# EAGLE library part M_DOT_2(NGFF)SSD_CONNECTOR (library logic-supply)
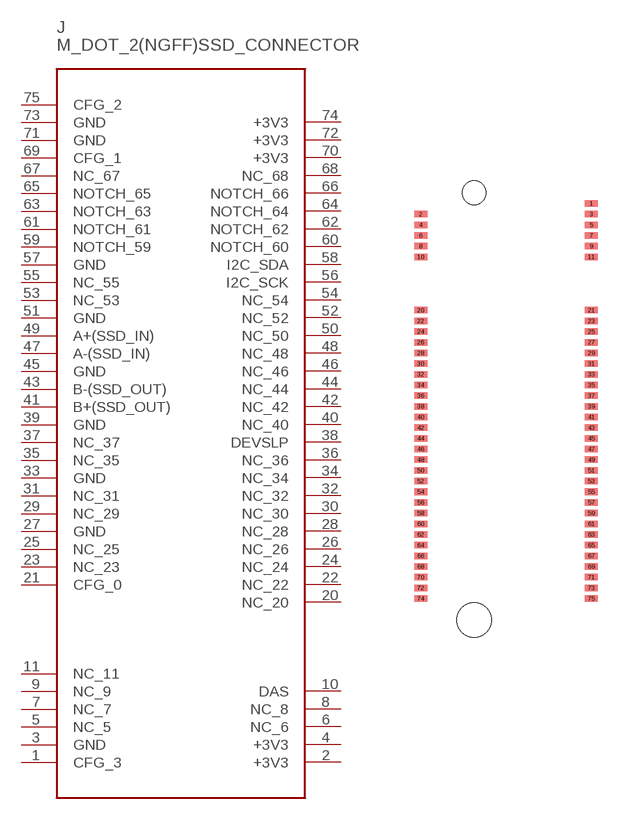
[diagram p53: symbol with the pads of M_DOT_2(NGFF)_SSD_CONNECTOR; footprint M_DOT_2(NGFF)_SSD_CONNECTOR]

Designator prefix J

## M_DOT_2(NGFF)SSD_CONNECTOR  [M_DOT_2(NGFF)_SSD_CONNECTOR]
1  CFG_3
2  +3V3
3  GND
4  +3V3
5  NC_5
6  NC_6
7  NC_7
8  NC_8
9  NC_9
10  DAS
11  NC_11
20  NC_20
21  CFG_0
22  NC_22
23  NC_23
24  NC_24
25  NC_25
26  NC_26
27  GND
28  NC_28
29  NC_29
30  NC_30
31  NC_31
32  NC_32
33  GND
34  NC_34
35  NC_35
36  NC_36
37  NC_37
38  DEVSLP
39  GND
40  NC_40
41  B+(SSD_OUT)
42  NC_42
43  B-(SSD_OUT)
44  NC_44
45  GND
46  NC_46
47  A-(SSD_IN)
48  NC_48
49  A+(SSD_IN)
50  NC_50
51  GND
52  NC_52
53  NC_53
54  NC_54
55  NC_55
56  I2C_SCK
57  GND
58  I2C_SDA
59  NOTCH_59
60  NOTCH_60
61  NOTCH_61
62  NOTCH_62
63  NOTCH_63
64  NOTCH_64
65  NOTCH_65
66  NOTCH_66
67  NC_67
68  NC_68
69  CFG_1
70  +3V3
71  GND
72  +3V3
73  GND
74  +3V3
75  CFG_2

## Footprint M_DOT_2(NGFF)_SSD_CONNECTOR (pad centres in mm)
CAUTION DRAFT ONLY M.2 NGFF SSD Connector 75 pins Wrong pad length
smd 0.61 x 0.305: 1 4,9.5; 2 -4,9; 3 4,9; 4 -4,8.5; 5 4,8.5; 6 -4,8; 7 4,8; 8 -4,7.5; 9 4,7.5; 10 -4,7; 11 4,7; 20 -4,4.5; 21 4,4.5; 22 -4,4; 23 4,4; 24 -4,3.5; 25 4,3.5; 26 -4,3; 27 4,3; 28 -4,2.5; 29 4,2.5; 30 -4,2; 31 4,2; 32 -4,1.5; 33 4,1.5; 34 -4,1; 35 4,1; 36 -4,0.5; 37 4,0.5; 38 -4,0; 39 4,0; 40 -4,-0.5; 41 4,-0.5; 42 -4,-1; 43 4,-1; 44 -4,-1.5; 45 4,-1.5; 46 -4,-2; 47 4,-2; 48 -4,-2.5; 49 4,-2.5; 50 -4,-3; 51 4,-3; 52 -4,-3.5; 53 4,-3.5; 54 -4,-4; 55 4,-4; 56 -4,-4.5; 57 4,-4.5; 58 -4,-5; 59 4,-5; 60 -4,-5.5; 61 4,-5.5; 62 -4,-6; 63 4,-6; 64 -4,-6.5; 65 4,-6.5; 66 -4,-7; 67 4,-7; 68 -4,-7.5; 69 4,-7.5; 70 -4,-8; 71 4,-8; 72 -4,-8.5; 73 4,-8.5; 74 -4,-9; 75 4,-9
hole 1.6 at -1.5,-10
hole 1.1 at -1.5,10